# EAGLE library part CON-PHOENIX-508_MSTBV6 (library eagle-template-export)
PHOENIX
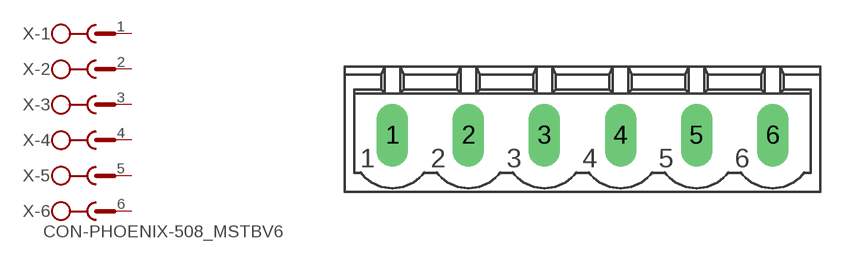
[diagram p4: symbol with the pads of CON-PHOENIX-508_MSTBV6; footprint CON-PHOENIX-508_MSTBV6]

Designator prefix X; gates -1=CON-PHOENIX-508_SK -2=CON-PHOENIX-508_SK -3=CON-PHOENIX-508_SK -4=CON-PHOENIX-508_SK -5=CON-PHOENIX-508_SK -6=CON-PHOENIX-508_SKV

## CON-PHOENIX-508_MSTBV6 (MPN: MSTBV 2,5/6-GF-5.08; OC_FARNELL: 1792796; OC_NEWARK: 69R9849)  [CON-PHOENIX-508_MSTBV6]
1  -1:1  pas
2  -2:1  pas
3  -3:1  pas
4  -4:1  pas
5  -5:1  pas
6  -6:1  pas

## Footprint CON-PHOENIX-508_MSTBV6 (pad centres in mm)
PHOENIX
drill 1.397 long: 1 -12.7,0; 2 -7.62,0; 3 -2.54,0; 4 2.54,0; 5 7.62,0; 6 12.7,0